# Altium schematic symbol library SCH - MCU - NXP - NXP MCXN546VDF VFBGA.SchLib: 1 symbol
Pins are listed as number, name and electrical type; pins without a type are passive.

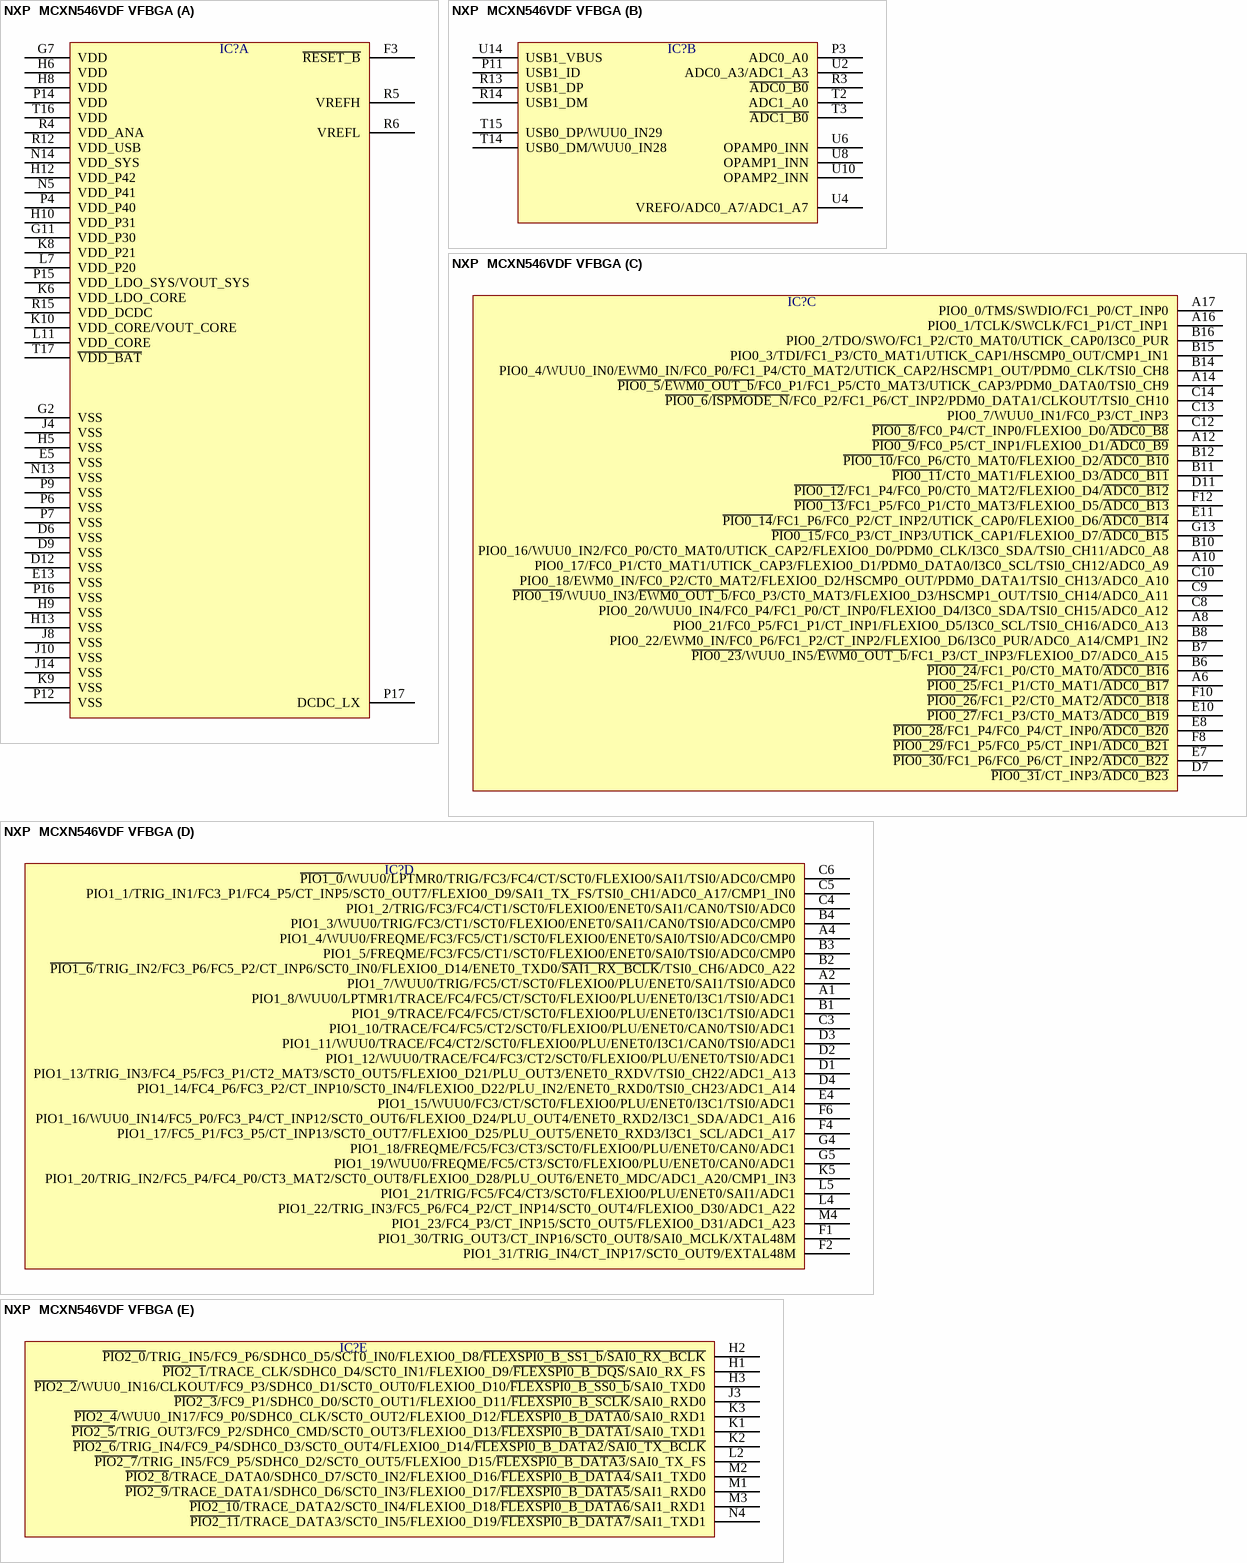
[diagram p0: symbol NXP  MCXN546VDF VFBGA]

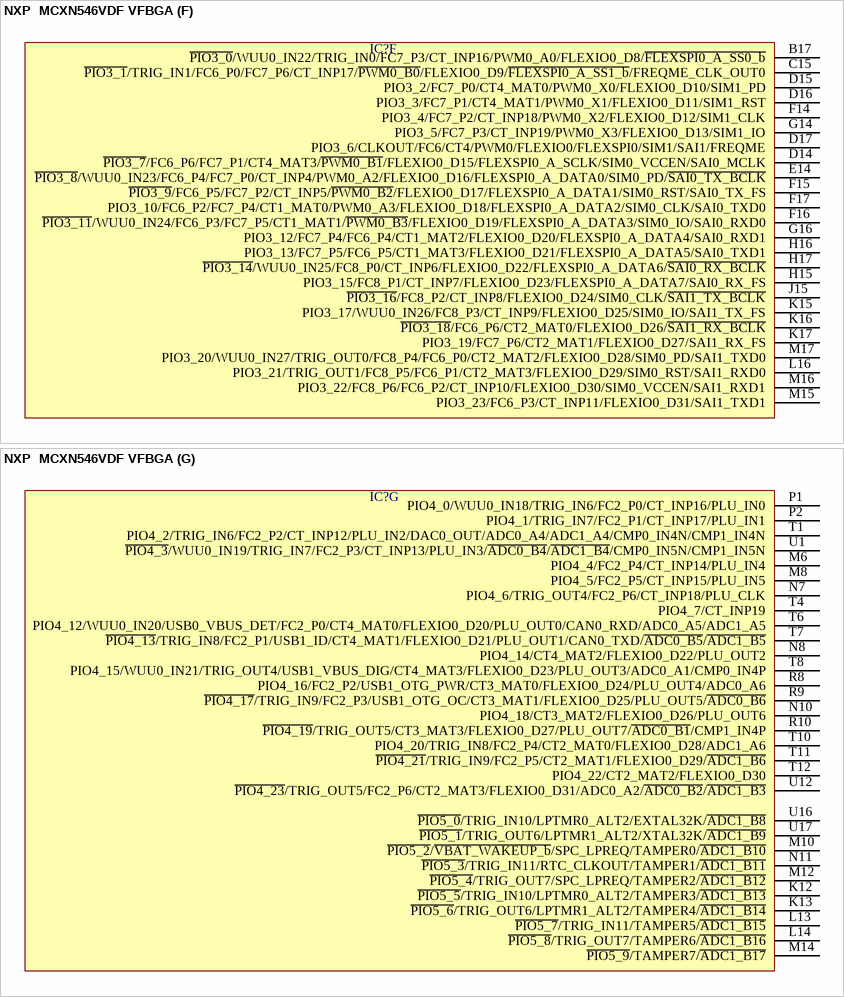
[diagram p1: symbol NXP  MCXN546VDF VFBGA]

## NXP  MCXN546VDF VFBGA
designator IC?  (value not drawn)
part A pins: D6 VSS, D9 VSS, D12 VSS, E5 VSS, E13 VSS, F3 ~{RESET_B}, G2 VSS, G7 VDD, G11 VDD_P30, H5 VSS, H6 VDD, H8 VDD, H9 VSS, H10 VDD_P31, H12 VDD_P42, H13 VSS, J4 VSS, J8 VSS, J10 VSS, J14 VSS, K6 VDD_LDO_CORE, K8 VDD_P21, K9 VSS, K10 VDD_CORE/VOUT_CORE, L7 VDD_P20, L11 VDD_CORE, N5 VDD_P41, N13 VSS, N14 VDD_SYS, P4 VDD_P40, P6 VSS, P7 VSS, P9 VSS, P12 VSS, P14 VDD, P15 VDD_LDO_SYS/VOUT_SYS, P16 VSS, P17 DCDC_LX, R4 VDD_ANA, R5 VREFH, R6 VREFL, R12 VDD_USB, R15 VDD_DCDC, T16 VDD, T17 ~{VDD_BAT}
part B pins: P3 ADC0_A0, P11 USB1_ID, R3 ~{ADC0_B0}, R13 USB1_DP, R14 USB1_DM, T2 ADC1_A0, T3 ~{ADC1_B0}, T14 USB0_DM/WUU0_IN28, T15 USB0_DP/WUU0_IN29, U2 ADC0_A3/ADC1_A3, U4 VREFO/ADC0_A7/ADC1_A7, U6 OPAMP0_INN, U8 OPAMP1_INN, U10 OPAMP2_INN, U14 USB1_VBUS
part C pins: A6 ~{PIO0_25}/FC1_P1/CT0_MAT1/~{ADC0_B17}, A8 PIO0_21/FC0_P5/FC1_P1/CT_INP1/FLEXIO0_D5/I3C0_SCL/TSI0_CH16/ADC0_A13, A10 PIO0_17/FC0_P1/CT0_MAT1/UTICK_CAP3/FLEXIO0_D1/PDM0_DATA0/I3C0_SCL/TSI0_CH12/ADC0_A9, A12 ~{PIO0_9}/FC0_P5/CT_INP1/FLEXIO0_D1/~{ADC0_B9}, A14 ~{PIO0_5}/~{EWM0_OUT_b}/FC0_P1/FC1_P5/CT0_MAT3/UTICK_CAP3/PDM0_DATA0/TSI0_CH9, A16 PIO0_1/TCLK/SWCLK/FC1_P1/CT_INP1, A17 PIO0_0/TMS/SWDIO/FC1_P0/CT_INP0, B6 ~{PIO0_24}/FC1_P0/CT0_MAT0/~{ADC0_B16}, B7 ~{PIO0_23}/WUU0_IN5/~{EWM0_OUT_b}/FC1_P3/CT_INP3/FLEXIO0_D7/ADC0_A15, B8 PIO0_22/EWM0_IN/FC0_P6/FC1_P2/CT_INP2/FLEXIO0_D6/I3C0_PUR/ADC0_A14/CMP1_IN2, B10 PIO0_16/WUU0_IN2/FC0_P0/CT0_MAT0/UTICK_CAP2/FLEXIO0_D0/PDM0_CLK/I3C0_SDA/TSI0_CH11/ADC0_A8, B11 ~{PIO0_11}/CT0_MAT1/FLEXIO0_D3/~{ADC0_B11}, B12 ~{PIO0_10}/FC0_P6/CT0_MAT0/FLEXIO0_D2/~{ADC0_B10}, B14 PIO0_4/WUU0_IN0/EWM0_IN/FC0_P0/FC1_P4/CT0_MAT2/UTICK_CAP2/HSCMP1_OUT/PDM0_CLK/TSI0_CH8, B15 PIO0_3/TDI/FC1_P3/CT0_MAT1/UTICK_CAP1/HSCMP0_OUT/CMP1_IN1, B16 PIO0_2/TDO/SWO/FC1_P2/CT0_MAT0/UTICK_CAP0/I3C0_PUR, C8 PIO0_20/WUU0_IN4/FC0_P4/FC1_P0/CT_INP0/FLEXIO0_D4/I3C0_SDA/TSI0_CH15/ADC0_A12, C9 ~{PIO0_19}/WUU0_IN3/~{EWM0_OUT_b}/FC0_P3/CT0_MAT3/FLEXIO0_D3/HSCMP1_OUT/TSI0_CH14/ADC0_A11, C10 PIO0_18/EWM0_IN/FC0_P2/CT0_MAT2/FLEXIO0_D2/HSCMP0_OUT/PDM0_DATA1/TSI0_CH13/ADC0_A10, C12 ~{PIO0_8}/FC0_P4/CT_INP0/FLEXIO0_D0/~{ADC0_B8}, C13 PIO0_7/WUU0_IN1/FC0_P3/CT_INP3, C14 ~{PIO0_6}/~{ISPMODE_N}/FC0_P2/FC1_P6/CT_INP2/PDM0_DATA1/CLKOUT/TSI0_CH10, D7 ~{PIO0_31}/CT_INP3/~{ADC0_B23}, D11 ~{PIO0_12}/FC1_P4/FC0_P0/CT0_MAT2/FLEXIO0_D4/~{ADC0_B12}, E7 ~{PIO0_30}/FC1_P6/FC0_P6/CT_INP2/~{ADC0_B22}, E8 ~{PIO0_28}/FC1_P4/FC0_P4/CT_INP0/~{ADC0_B20}, E10 ~{PIO0_27}/FC1_P3/CT0_MAT3/~{ADC0_B19}, E11 ~{PIO0_14}/FC1_P6/FC0_P2/CT_INP2/UTICK_CAP0/FLEXIO0_D6/~{ADC0_B14}, F8 ~{PIO0_29}/FC1_P5/FC0_P5/CT_INP1/~{ADC0_B21}, F10 ~{PIO0_26}/FC1_P2/CT0_MAT2/~{ADC0_B18}, F12 ~{PIO0_13}/FC1_P5/FC0_P1/CT0_MAT3/FLEXIO0_D5/~{ADC0_B13}, G13 ~{PIO0_15}/FC0_P3/CT_INP3/UTICK_CAP1/FLEXIO0_D7/~{ADC0_B15}
part D pins: A1 PIO1_8/WUU0/LPTMR1/TRACE/FC4/FC5/CT/SCT0/FLEXIO0/PLU/ENET0/I3C1/TSI0/ADC1, A2 PIO1_7/WUU0/TRIG/FC5/CT/SCT0/FLEXIO0/PLU/ENET0/SAI1/TSI0/ADC0, A4 PIO1_4/WUU0/FREQME/FC3/FC5/CT1/SCT0/FLEXIO0/ENET0/SAI0/TSI0/ADC0/CMP0, B1 PIO1_9/TRACE/FC4/FC5/CT/SCT0/FLEXIO0/PLU/ENET0/I3C1/TSI0/ADC1, B2 ~{PIO1_6}/TRIG_IN2/FC3_P6/FC5_P2/CT_INP6/SCT0_IN0/FLEXIO0_D14/ENET0_TXD0/~{SAI1_RX_BCLK}/TSI0_CH6/ADC0_A22, B3 PIO1_5/FREQME/FC3/FC5/CT1/SCT0/FLEXIO0/ENET0/SAI0/TSI0/ADC0/CMP0, B4 PIO1_3/WUU0/TRIG/FC3/CT1/SCT0/FLEXIO0/ENET0/SAI1/CAN0/TSI0/ADC0/CMP0, C3 PIO1_10/TRACE/FC4/FC5/CT2/SCT0/FLEXIO0/PLU/ENET0/CAN0/TSI0/ADC1, C4 PIO1_2/TRIG/FC3/FC4/CT1/SCT0/FLEXIO0/ENET0/SAI1/CAN0/TSI0/ADC0, C5 PIO1_1/TRIG_IN1/FC3_P1/FC4_P5/CT_INP5/SCT0_OUT7/FLEXIO0_D9/SAI1_TX_FS/TSI0_CH1/ADC0_A17/CMP1_IN0, C6 ~{PIO1_0}/WUU0/LPTMR0/TRIG/FC3/FC4/CT/SCT0/FLEXIO0/SAI1/TSI0/ADC0/CMP0, D1 PIO1_13/TRIG_IN3/FC4_P5/FC3_P1/CT2_MAT3/SCT0_OUT5/FLEXIO0_D21/PLU_OUT3/ENET0_RXDV/TSI0_CH22/ADC1_A13, D2 PIO1_12/WUU0/TRACE/FC4/FC3/CT2/SCT0/FLEXIO0/PLU/ENET0/TSI0/ADC1, D3 PIO1_11/WUU0/TRACE/FC4/CT2/SCT0/FLEXIO0/PLU/ENET0/I3C1/CAN0/TSI0/ADC1, D4 PIO1_14/FC4_P6/FC3_P2/CT_INP10/SCT0_IN4/FLEXIO0_D22/PLU_IN2/ENET0_RXD0/TSI0_CH23/ADC1_A14, E4 PIO1_15/WUU0/FC3/CT/SCT0/FLEXIO0/PLU/ENET0/I3C1/TSI0/ADC1, F1 PIO1_30/TRIG_OUT3/CT_INP16/SCT0_OUT8/SAI0_MCLK/XTAL48M, F2 PIO1_31/TRIG_IN4/CT_INP17/SCT0_OUT9/EXTAL48M, F4 PIO1_17/FC5_P1/FC3_P5/CT_INP13/SCT0_OUT7/FLEXIO0_D25/PLU_OUT5/ENET0_RXD3/I3C1_SCL/ADC1_A17, F6 PIO1_16/WUU0_IN14/FC5_P0/FC3_P4/CT_INP12/SCT0_OUT6/FLEXIO0_D24/PLU_OUT4/ENET0_RXD2/I3C1_SDA/ADC1_A16, G4 PIO1_18/FREQME/FC5/FC3/CT3/SCT0/FLEXIO0/PLU/ENET0/CAN0/ADC1, G5 PIO1_19/WUU0/FREQME/FC5/CT3/SCT0/FLEXIO0/PLU/ENET0/CAN0/ADC1, K5 PIO1_20/TRIG_IN2/FC5_P4/FC4_P0/CT3_MAT2/SCT0_OUT8/FLEXIO0_D28/PLU_OUT6/ENET0_MDC/ADC1_A20/CMP1_IN3, L4 PIO1_22/TRIG_IN3/FC5_P6/FC4_P2/CT_INP14/SCT0_OUT4/FLEXIO0_D30/ADC1_A22, L5 PIO1_21/TRIG/FC5/FC4/CT3/SCT0/FLEXIO0/PLU/ENET0/SAI1/ADC1, M4 PIO1_23/FC4_P3/CT_INP15/SCT0_OUT5/FLEXIO0_D31/ADC1_A23
part E pins: H1 ~{PIO2_1}/TRACE_CLK/SDHC0_D4/SCT0_IN1/FLEXIO0_D9/~{FLEXSPI0_B_DQS}/SAI0_RX_FS, H2 ~{PIO2_0}/TRIG_IN5/FC9_P6/SDHC0_D5/SCT0_IN0/FLEXIO0_D8/~{FLEXSPI0_B_SS1_b}/~{SAI0_RX_BCLK}, H3 ~{PIO2_2}/WUU0_IN16/CLKOUT/FC9_P3/SDHC0_D1/SCT0_OUT0/FLEXIO0_D10/~{FLEXSPI0_B_SS0_b}/SAI0_TXD0, J3 ~{PIO2_3}/FC9_P1/SDHC0_D0/SCT0_OUT1/FLEXIO0_D11/~{FLEXSPI0_B_SCLK}/SAI0_RXD0, K1 ~{PIO2_5}/TRIG_OUT3/FC9_P2/SDHC0_CMD/SCT0_OUT3/FLEXIO0_D13/~{FLEXSPI0_B_DATA1}/SAI0_TXD1, K2 ~{PIO2_6}/TRIG_IN4/FC9_P4/SDHC0_D3/SCT0_OUT4/FLEXIO0_D14/~{FLEXSPI0_B_DATA2}/~{SAI0_TX_BCLK}, K3 ~{PIO2_4}/WUU0_IN17/FC9_P0/SDHC0_CLK/SCT0_OUT2/FLEXIO0_D12/~{FLEXSPI0_B_DATA0}/SAI0_RXD1, L2 ~{PIO2_7}/TRIG_IN5/FC9_P5/SDHC0_D2/SCT0_OUT5/FLEXIO0_D15/~{FLEXSPI0_B_DATA3}/SAI0_TX_FS, M1 ~{PIO2_9}/TRACE_DATA1/SDHC0_D6/SCT0_IN3/FLEXIO0_D17/~{FLEXSPI0_B_DATA5}/SAI1_RXD0, M2 ~{PIO2_8}/TRACE_DATA0/SDHC0_D7/SCT0_IN2/FLEXIO0_D16/~{FLEXSPI0_B_DATA4}/SAI1_TXD0, M3 ~{PIO2_10}/TRACE_DATA2/SCT0_IN4/FLEXIO0_D18/~{FLEXSPI0_B_DATA6}/SAI1_RXD1, N4 ~{PIO2_11}/TRACE_DATA3/SCT0_IN5/FLEXIO0_D19/~{FLEXSPI0_B_DATA7}/SAI1_TXD1
part F pins: B17 ~{PIO3_0}/WUU0_IN22/TRIG_IN0/FC7_P3/CT_INP16/PWM0_A0/FLEXIO0_D8/~{FLEXSPI0_A_SS0_b}, C15 ~{PIO3_1}/TRIG_IN1/FC6_P0/FC7_P6/CT_INP17/~{PWM0_B0}/FLEXIO0_D9/~{FLEXSPI0_A_SS1_b}/FREQME_CLK_OUT0, D14 ~{PIO3_7}/FC6_P6/FC7_P1/CT4_MAT3/~{PWM0_B1}/FLEXIO0_D15/FLEXSPI0_A_SCLK/SIM0_VCCEN/SAI0_MCLK, D15 PIO3_2/FC7_P0/CT4_MAT0/PWM0_X0/FLEXIO0_D10/SIM1_PD, D16 PIO3_3/FC7_P1/CT4_MAT1/PWM0_X1/FLEXIO0_D11/SIM1_RST, D17 PIO3_6/CLKOUT/FC6/CT4/PWM0/FLEXIO0/FLEXSPI0/SIM1/SAI1/FREQME, E14 ~{PIO3_8}/WUU0_IN23/FC6_P4/FC7_P0/CT_INP4/PWM0_A2/FLEXIO0_D16/FLEXSPI0_A_DATA0/SIM0_PD/~{SAI0_TX_BCLK}, F14 PIO3_4/FC7_P2/CT_INP18/PWM0_X2/FLEXIO0_D12/SIM1_CLK, F15 ~{PIO3_9}/FC6_P5/FC7_P2/CT_INP5/~{PWM0_B2}/FLEXIO0_D17/FLEXSPI0_A_DATA1/SIM0_RST/SAI0_TX_FS, F16 ~{PIO3_11}/WUU0_IN24/FC6_P3/FC7_P5/CT1_MAT1/~{PWM0_B3}/FLEXIO0_D19/FLEXSPI0_A_DATA3/SIM0_IO/SAI0_RXD0, F17 PIO3_10/FC6_P2/FC7_P4/CT1_MAT0/PWM0_A3/FLEXIO0_D18/FLEXSPI0_A_DATA2/SIM0_CLK/SAI0_TXD0, G14 PIO3_5/FC7_P3/CT_INP19/PWM0_X3/FLEXIO0_D13/SIM1_IO, G16 PIO3_12/FC7_P4/FC6_P4/CT1_MAT2/FLEXIO0_D20/FLEXSPI0_A_DATA4/SAI0_RXD1, H15 PIO3_15/FC8_P1/CT_INP7/FLEXIO0_D23/FLEXSPI0_A_DATA7/SAI0_RX_FS, H16 PIO3_13/FC7_P5/FC6_P5/CT1_MAT3/FLEXIO0_D21/FLEXSPI0_A_DATA5/SAI0_TXD1, H17 ~{PIO3_14}/WUU0_IN25/FC8_P0/CT_INP6/FLEXIO0_D22/FLEXSPI0_A_DATA6/~{SAI0_RX_BCLK}, J15 ~{PIO3_16}/FC8_P2/CT_INP8/FLEXIO0_D24/SIM0_CLK/~{SAI1_TX_BCLK}, K15 PIO3_17/WUU0_IN26/FC8_P3/CT_INP9/FLEXIO0_D25/SIM0_IO/SAI1_TX_FS, K16 ~{PIO3_18}/FC6_P6/CT2_MAT0/FLEXIO0_D26/~{SAI1_RX_BCLK}, K17 PIO3_19/FC7_P6/CT2_MAT1/FLEXIO0_D27/SAI1_RX_FS, L16 PIO3_21/TRIG_OUT1/FC8_P5/FC6_P1/CT2_MAT3/FLEXIO0_D29/SIM0_RST/SAI1_RXD0, M15 PIO3_23/FC6_P3/CT_INP11/FLEXIO0_D31/SAI1_TXD1, M16 PIO3_22/FC8_P6/FC6_P2/CT_INP10/FLEXIO0_D30/SIM0_VCCEN/SAI1_RXD1, M17 PIO3_20/WUU0_IN27/TRIG_OUT0/FC8_P4/FC6_P0/CT2_MAT2/FLEXIO0_D28/SIM0_PD/SAI1_TXD0
part G pins: K12 ~{PIO5_5}/TRIG_IN10/LPTMR0_ALT2/TAMPER3/~{ADC1_B13}, K13 ~{PIO5_6}/TRIG_OUT6/LPTMR1_ALT2/TAMPER4/~{ADC1_B14}, L13 ~{PIO5_7}/TRIG_IN11/TAMPER5/~{ADC1_B15}, L14 ~{PIO5_8}/TRIG_OUT7/TAMPER6/~{ADC1_B16}, M6 PIO4_4/FC2_P4/CT_INP14/PLU_IN4, M8 PIO4_5/FC2_P5/CT_INP15/PLU_IN5, M10 ~{PIO5_2}/~{VBAT_WAKEUP_b}/SPC_LPREQ/TAMPER0/~{ADC1_B10}, M12 ~{PIO5_4}/TRIG_OUT7/SPC_LPREQ/TAMPER2/~{ADC1_B12}, M14 ~{PIO5_9}/TAMPER7/~{ADC1_B17}, N7 PIO4_6/TRIG_OUT4/FC2_P6/CT_INP18/PLU_CLK, N8 PIO4_14/CT4_MAT2/FLEXIO0_D22/PLU_OUT2, N10 PIO4_18/CT3_MAT2/FLEXIO0_D26/PLU_OUT6, N11 ~{PIO5_3}/TRIG_IN11/RTC_CLKOUT/TAMPER1/~{ADC1_B11}, P1 PIO4_0/WUU0_IN18/TRIG_IN6/FC2_P0/CT_INP16/PLU_IN0, P2 PIO4_1/TRIG_IN7/FC2_P1/CT_INP17/PLU_IN1, R8 PIO4_16/FC2_P2/USB1_OTG_PWR/CT3_MAT0/FLEXIO0_D24/PLU_OUT4/ADC0_A6, R9 ~{PIO4_17}/TRIG_IN9/FC2_P3/USB1_OTG_OC/CT3_MAT1/FLEXIO0_D25/PLU_OUT5/~{ADC0_B6}, R10 ~{PIO4_19}/TRIG_OUT5/CT3_MAT3/FLEXIO0_D27/PLU_OUT7/~{ADC0_B1}/CMP1_IN4P, T1 PIO4_2/TRIG_IN6/FC2_P2/CT_INP12/PLU_IN2/DAC0_OUT/ADC0_A4/ADC1_A4/CMP0_IN4N/CMP1_IN4N, T4 PIO4_7/CT_INP19, T6 PIO4_12/WUU0_IN20/USB0_VBUS_DET/FC2_P0/CT4_MAT0/FLEXIO0_D20/PLU_OUT0/CAN0_RXD/ADC0_A5/ADC1_A5, T7 ~{PIO4_13}/TRIG_IN8/FC2_P1/USB1_ID/CT4_MAT1/FLEXIO0_D21/PLU_OUT1/CAN0_TXD/~{ADC0_B5}/~{ADC1_B5}, T8 PIO4_15/WUU0_IN21/TRIG_OUT4/USB1_VBUS_DIG/CT4_MAT3/FLEXIO0_D23/PLU_OUT3/ADC0_A1/CMP0_IN4P, T10 PIO4_20/TRIG_IN8/FC2_P4/CT2_MAT0/FLEXIO0_D28/ADC1_A6, T11 ~{PIO4_21}/TRIG_IN9/FC2_P5/CT2_MAT1/FLEXIO0_D29/~{ADC1_B6}, T12 PIO4_22/CT2_MAT2/FLEXIO0_D30, U1 ~{PIO4_3}/WUU0_IN19/TRIG_IN7/FC2_P3/CT_INP13/PLU_IN3/~{ADC0_B4}/~{ADC1_B4}/CMP0_IN5N/CMP1_IN5N, U12 ~{PIO4_23}/TRIG_OUT5/FC2_P6/CT2_MAT3/FLEXIO0_D31/ADC0_A2/~{ADC0_B2}/~{ADC1_B3}, U16 ~{PIO5_0}/TRIG_IN10/LPTMR0_ALT2/EXTAL32K/~{ADC1_B8}, U17 ~{PIO5_1}/TRIG_OUT6/LPTMR1_ALT2/XTAL32K/~{ADC1_B9}